# Altium schematic symbol library ECS-250-12-33-AGN-TR.Schlib: 1 symbol
Pins are listed as number, name and electrical type; pins without a type are passive.

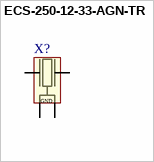
[diagram p0: symbol ECS-250-12-33-AGN-TR]

## ECS-250-12-33-AGN-TR
designator X?
Oscillator
pins: 1, 2 (power), 3, 4 (power)
text: GND